# EAGLE library part MAX11625 (library custom)
10-bit ADC SPI 300kSPS 4/8Channel
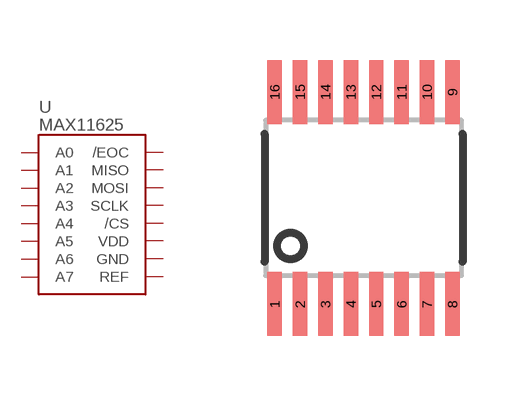
[diagram p113: symbol with the pads of 16-QSOP; footprint 16-QSOP]

Designator prefix U

## MAX11625  [16-QSOP]
1  A0
2  A1
3  A2
4  A3
5  A4
6  A5
7  A6
8  A7
9  REF
10  GND
11  VDD
12  /CS
13  SCLK
14  MOSI
15  MISO
16  /EOC

## Footprint 16-QSOP (pad centres in mm)
smd 0.36 x 1.6: 1 -2.223,-2.655; 2 -1.587,-2.655; 3 -0.953,-2.655; 4 -0.318,-2.655; 5 0.318,-2.655; 6 0.953,-2.655; 7 1.587,-2.655; 8 2.223,-2.655; 9 2.223,2.655; 10 1.587,2.655; 11 0.953,2.655; 12 0.318,2.655; 13 -0.318,2.655; 14 -0.953,2.655; 15 -1.587,2.655; 16 -2.223,2.655